# Altium footprint library ece315.PcbLib: 20 footprints (part 2 of 2)
Each footprint in its own frame and in the unit in brackets; x right, y up, seen from the top. Pads: shape width x height; smd on the part's side, far side on the other; paste and mask are expansions set on the pad; w line width, h text height; cw(c..) or ccw(c..) is an arc to the next point about the centre after c.
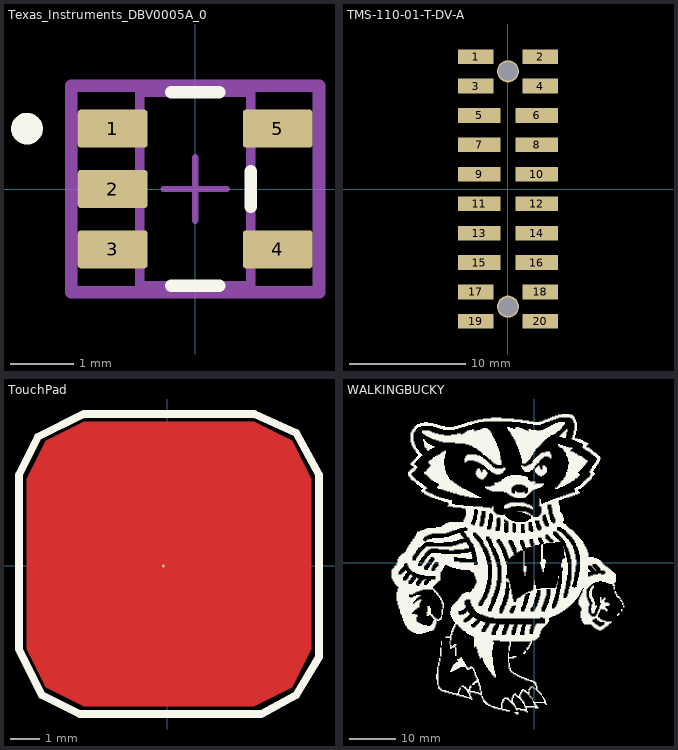
[diagram p1: the footprints below, top view; thin cyan lines are the x and y axes]

## Texas_Instruments_DBV0005A_0 [mm]
pads (5):
  rrect17% 1.1x0.6 smd paste+0 mask+0: 1(-1.3,0.95) 2(-1.3,0) 3(-1.3,-0.95) 4(1.3,-0.95) 5(1.3,0.95)
Top Overlay:
  circle w0.25: c-2.65,0.95 r0.125
  lines w0.2: -0.375,-1.525 0.375,-1.525 ; -0.375,1.525 0.375,1.525 ; 0.875,-0.275 0.875,0.275
Mechanical 10:
  lines w0.2: -1.95,-1.625 -1.95,1.625 1.95,1.625 1.95,-1.625 -1.95,-1.625
Mechanical 12:
  lines w0.15: -0.875,-1.525 -0.875,1.525 0.875,1.525 0.875,-1.525 -0.875,-1.525
Mechanical 15:
  lines w0.1: -0.5,0 0.5,0 ; 0,-0.5 0,0.5
  lines w0.2: -1.95,-1.625 -1.95,1.625 1.95,1.625 1.95,-1.625 -1.95,-1.625
3D body "IC_Texas_Instruments_LM2735XMF-NOPB_eec.STEP": height 0.25, standoff 0, extent -1.95,-1.625 1.95,1.625

## TMS-110-01-T-DV-A [mil]
pads (22):
  rect 120x50 smd: 1(-110,450) 2(110,450) 3(-110,350) 4(110,350) 17(-110,-350) 18(110,-350) 19(-110,-450) 20(110,-450)
  rect 145x50 smd: 5(-97.5,250) 6(97.5,250) 7(-97.5,150) 8(97.5,150) 9(-97.5,50) 10(97.5,50) 11(-97.5,-50) 12(97.5,-50) 13(-97.5,-150) 14(97.5,-150) 15(-97.5,-250) 16(97.5,-250)
  round 75 hole 63: ""(0,-400) ""(0,400)
Top Overlay:
  text "." at -214.41,500.46 h125.98
3D body "Samtec-TSM-110-02-T-DV-A.step": height 470, standoff -50, extent -140,-493 150,507

## TouchPad [mm]
pads (1):
  round 0.1 smd: 1(-0.127,0)
Top Layer:
  region: 4.826,2.921 4.826,-2.794 4.191,-4.064 2.921,-4.699 -2.794,-4.699 -4.064,-4.064 -4.699,-2.794 -4.699,2.921 -4.064,4.191 -2.794,4.826 2.921,4.826 4.191,4.191
Top Overlay:
  lines w0.254: -4.953,-2.794 -4.953,3.048 -4.318,4.318 -2.794,5.08 2.921,5.08 4.318,4.445 5.08,3.048 5.08,2.794 5.08,-3.048 4.318,-4.318 3.154,-4.953 -2.921,-4.953 -4.191,-4.318 -4.953,-2.794

## WALKINGBUCKY [mm]
Top Overlay:
  drawing of 56 lines, arcs and shapes, not listed